# EAGLE library part ESP32 (library Tranii)
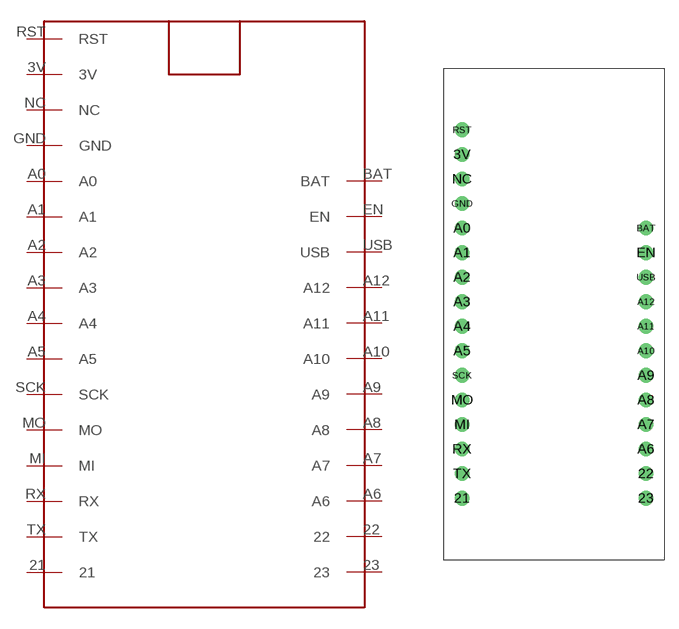
[diagram p0: symbol with the pads of ESP32; footprint ESP32]

Designator prefix -

## ESP32  [ESP32]
3V  3V
21  21
22  22
23  23
A0  A0
A1  A1
A2  A2
A3  A3
A4  A4
A5  A5
A6  A6
A7  A7
A8  A8
A9  A9
A10  A10
A11  A11
A12  A12
BAT  BAT
EN  EN
GND  GND
MI  MI
MO  MO
NC  NC
RST  RST
RX  RX
SCK  SCK
TX  TX
USB  USB

## Footprint ESP32 (pad centres in mm)
drill 1.02: 3V -9.525,16.51; 21 -9.525,-19.05; 22 9.525,-16.51; 23 9.525,-19.05; A0 -9.525,8.89; A1 -9.525,6.35; A2 -9.525,3.81; A3 -9.525,1.27; A4 -9.525,-1.27; A5 -9.525,-3.81; A6 9.525,-13.97; A7 9.525,-11.43; A8 9.525,-8.89; A9 9.525,-6.35; A10 9.525,-3.81; A11 9.525,-1.27; A12 9.525,1.27; BAT 9.525,8.89; EN 9.525,6.35; GND -9.525,11.43; MI -9.525,-11.43; MO -9.525,-8.89; NC -9.525,13.97; RST -9.525,19.05; RX -9.525,-13.97; SCK -9.525,-6.35; TX -9.525,-16.51; USB 9.525,3.81